# EAGLE library part POT_DUAL (library PASSIVES)
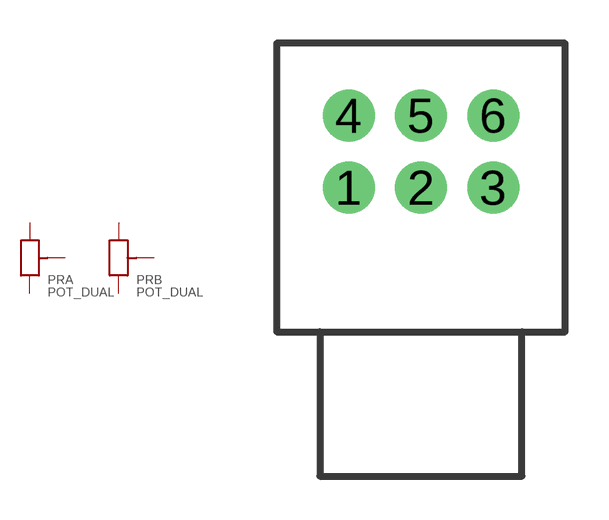
[diagram p0: symbol with the pads of BOURNS_PTD902; footprint BOURNS_PTD902]

Designator prefix PR; gates A=POTENTIOMETER B=POTENTIOMETER

## POT_DUAL  [BOURNS_PTD902]
1  A:A
2  A:W
3  A:B
4  B:A
5  B:W
6  B:B

## Footprint BOURNS_PTD902 (pad centres in mm)
drill 1.2: 1 -2.5,0; 2 0,0; 3 2.5,0; 4 -2.5,2.5; 5 0,2.5; 6 2.5,2.5